# Altium schematic symbol library WR-TBL_Wire Protector.SchLib: 141 symbols (part 3 of 3)
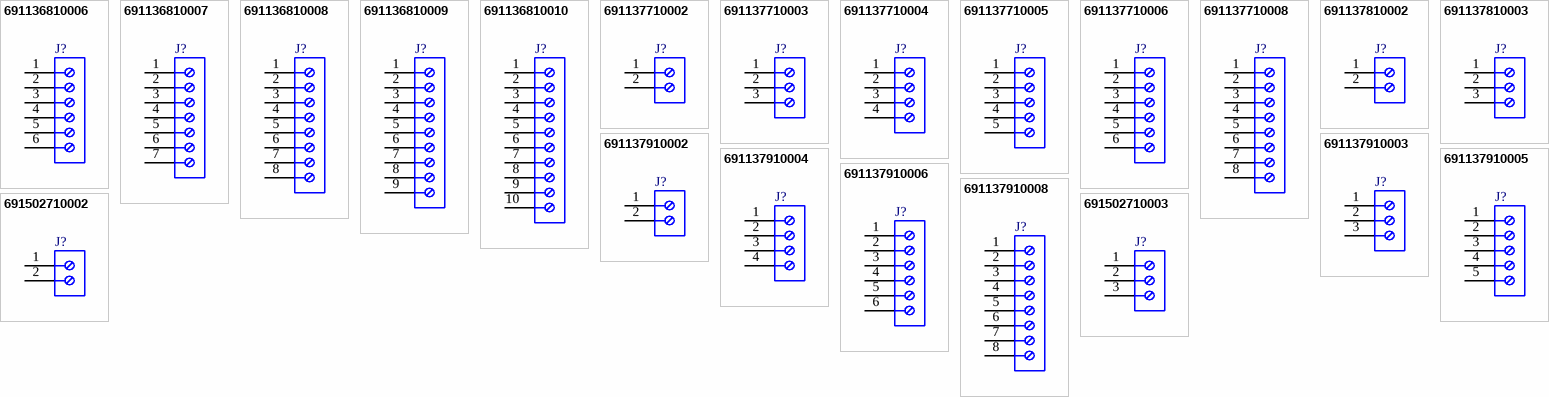
[diagram p5: symbols 691136810006 to 691502710003]

## 691137710005
designator J?  (value not drawn)
WR-TBL Series 1377 Horizontal Entry, THT, pitch 5mm, 05p; Manufacturer: Wurth Elektronik; Modularity: No; Rated Current: 16A; Wire Section: 12 to 30 (AWG) 0.5 to 2.5 (mm^2); Working Voltage: 300V (AC); Manufacturer Part Number: 691137710005; Product Series: WR-TBL; ComponentLink1Description: Website Link; ComponentLink1URL: https://www.we-online.com; ComponentLink2Description: Datasheet Link; ComponentLink2URL: https://www.we-online.com/components/products/datasheet/691137710005; Mount: Through Hole; Operating Temperature Min: -30degC; Operating Temperature Max: 120degC; Packaging: Box; Application: Pressure Clamp; Number of Pins: 5; Number of Rows: 1; Orientation: Horizontal; Lead Pitch: 5mm
footprint 691137710005
pins: 1, 2, 3, 4, 5

## 691137710006
designator J?  (value not drawn)
WR-TBL Series 1377 Horizontal Entry, THT, pitch 5mm, 06p; Manufacturer: Wurth Elektronik; Modularity: No; Rated Current: 16A; Wire Section: 12 to 30 (AWG) 0.5 to 2.5 (mm^2); Working Voltage: 300V (AC); Manufacturer Part Number: 691137710006; Product Series: WR-TBL; ComponentLink1Description: Website Link; ComponentLink1URL: https://www.we-online.com; ComponentLink2Description: Datasheet Link; ComponentLink2URL: https://www.we-online.com/components/products/datasheet/691137710006; Mount: Through Hole; Operating Temperature Min: -30degC; Operating Temperature Max: 120degC; Packaging: Box; Application: Pressure Clamp; Number of Pins: 6; Number of Rows: 1; Orientation: Horizontal; Lead Pitch: 5mm
footprint 691137710006
pins: 1, 2, 3, 4, 5, 6

## 691137710008
designator J?  (value not drawn)
WR-TBL Series 1377 Horizontal Entry, THT, pitch 5mm, 08p; Manufacturer: Wurth Elektronik; Modularity: No; Rated Current: 16A; Wire Section: 12 to 30 (AWG) 0.5 to 2.5 (mm^2); Working Voltage: 300V (AC); Manufacturer Part Number: 691137710008; Product Series: WR-TBL; ComponentLink1Description: Website Link; ComponentLink1URL: https://www.we-online.com; ComponentLink2Description: Datasheet Link; ComponentLink2URL: https://www.we-online.com/components/products/datasheet/691137710008; Mount: Through Hole; Operating Temperature Min: -30degC; Operating Temperature Max: 120degC; Packaging: Box; Application: Pressure Clamp; Number of Pins: 8; Number of Rows: 1; Orientation: Horizontal; Lead Pitch: 5mm
footprint 691137710008
pins: 1, 2, 3, 4, 5, 6, 7, 8

## 691137810002
designator J?  (value not drawn)
WR-TBL Series 1378 Horizontal Cable Entry, THT, pitch 10mm, 02p; Manufacturer: Wurth Elektronik; Modularity: No; Rated Current: 16A; Wire Section: 30 to 12 (AWG) 0.05 to 3.31 (mm^2); Working Voltage: 300V (AC); Manufacturer Part Number: 691137810002; Product Series: WR-TBL; ComponentLink1Description: Website Link; ComponentLink1URL: https://www.we-online.com; ComponentLink2Description: Datasheet Link; ComponentLink2URL: https://www.we-online.com/components/products/datasheet/691137810002; Mount: Through Hole; Operating Temperature Min: -30degC; Operating Temperature Max: 120degC; Packaging: Box; Application: Pressure Clamp; Number of Pins: 2; Number of Rows: 1; Orientation: Horizontal; Lead Pitch: 10mm
footprint 691137810002
pins: 1, 2

## 691137810003
designator J?  (value not drawn)
WR-TBL Series 1378 Horizontal Cable Entry, THT, pitch 10mm, 03p; Manufacturer: Wurth Elektronik; Modularity: No; Rated Current: 16A; Wire Section: 30 to 12 (AWG) 0.05 to 3.31 (mm^2); Working Voltage: 300V (AC); Manufacturer Part Number: 691137810003; Product Series: WR-TBL; ComponentLink1Description: Website Link; ComponentLink1URL: https://www.we-online.com; ComponentLink2Description: Datasheet Link; ComponentLink2URL: https://www.we-online.com/components/products/datasheet/691137810003; Mount: Through Hole; Operating Temperature Min: -30degC; Operating Temperature Max: 120degC; Packaging: Box; Application: Pressure Clamp; Number of Pins: 3; Number of Rows: 1; Orientation: Horizontal; Lead Pitch: 10mm
footprint 691137810003
pins: 1, 2, 3

## 691137910002
designator J?  (value not drawn)
WR-TBL Series 1379 Horizontal Cable Entry, THT, pitch 7.5mm, 02p; Manufacturer: Wurth Elektronik; Modularity: No; Rated Current: 16A; Wire Section: 30 to 12 (AWG) 0.05 to 3.31 (mm^2); Working Voltage: 300V (AC); Manufacturer Part Number: 691137910002; Product Series: WR-TBL; ComponentLink1Description: Website Link; ComponentLink1URL: https://www.we-online.com; ComponentLink2Description: Datasheet Link; ComponentLink2URL: https://www.we-online.com/components/products/datasheet/691137910002; Mount: Through Hole; Operating Temperature Min: -30degC; Operating Temperature Max: 120degC; Packaging: Box; Application: Pressure Clamp; Number of Pins: 2; Number of Rows: 1; Orientation: Horizontal; Lead Pitch: 7.5mm
footprint 691137910002
pins: 1, 2

## 691137910003
designator J?  (value not drawn)
WR-TBL Series 1379 Horizontal Cable Entry, THT, pitch 7.5mm, 03p; Manufacturer: Wurth Elektronik; Modularity: No; Rated Current: 16A; Wire Section: 30 to 12 (AWG) 0.05 to 3.31 (mm^2); Working Voltage: 300V (AC); Manufacturer Part Number: 691137910003; Product Series: WR-TBL; ComponentLink1Description: Website Link; ComponentLink1URL: https://www.we-online.com; ComponentLink2Description: Datasheet Link; ComponentLink2URL: https://www.we-online.com/components/products/datasheet/691137910003; Mount: Through Hole; Operating Temperature Min: -30degC; Operating Temperature Max: 120degC; Packaging: Box; Application: Pressure Clamp; Number of Pins: 3; Number of Rows: 1; Orientation: Horizontal; Lead Pitch: 7.5mm
footprint 691137910003
pins: 1, 2, 3

## 691137910004
designator J?  (value not drawn)
WR-TBL Series 1379 Horizontal Cable Entry, THT, pitch 7.5mm, 04p; Manufacturer: Wurth Elektronik; Modularity: No; Rated Current: 16A; Wire Section: 30 to 12 (AWG) 0.05 to 3.31 (mm^2); Working Voltage: 300V (AC); Manufacturer Part Number: 691137910004; Product Series: WR-TBL; ComponentLink1Description: Website Link; ComponentLink1URL: https://www.we-online.com; ComponentLink2Description: Datasheet Link; ComponentLink2URL: https://www.we-online.com/components/products/datasheet/691137910004; Mount: Through Hole; Operating Temperature Min: -30degC; Operating Temperature Max: 120degC; Packaging: Box; Application: Pressure Clamp; Number of Pins: 4; Number of Rows: 1; Orientation: Horizontal; Lead Pitch: 7.5mm
footprint 691137910004
pins: 1, 2, 3, 4

## 691137910005
designator J?  (value not drawn)
WR-TBL Series 1379 Horizontal Cable Entry, THT, pitch 7.5mm, 05p; Manufacturer: Wurth Elektronik; Modularity: No; Rated Current: 16A; Wire Section: 30 to 12 (AWG) 0.05 to 3.31 (mm^2); Working Voltage: 300V (AC); Manufacturer Part Number: 691137910005; Product Series: WR-TBL; ComponentLink1Description: Website Link; ComponentLink1URL: https://www.we-online.com; ComponentLink2Description: Datasheet Link; ComponentLink2URL: https://www.we-online.com/components/products/datasheet/691137910005; Mount: Through Hole; Operating Temperature Min: -30degC; Operating Temperature Max: 120degC; Packaging: Box; Application: Pressure Clamp; Number of Pins: 5; Number of Rows: 1; Orientation: Horizontal; Lead Pitch: 7.5mm
footprint 691137910005
pins: 1, 2, 3, 4, 5

## 691137910006
designator J?  (value not drawn)
WR-TBL Series 1379 Horizontal Cable Entry, THT, pitch 7.5mm, 06p; Manufacturer: Wurth Elektronik; Modularity: No; Rated Current: 16A; Wire Section: 30 to 12 (AWG) 0.05 to 3.31 (mm^2); Working Voltage: 300V (AC); Manufacturer Part Number: 691137910006; Product Series: WR-TBL; ComponentLink1Description: Website Link; ComponentLink1URL: https://www.we-online.com; ComponentLink2Description: Datasheet Link; ComponentLink2URL: https://www.we-online.com/components/products/datasheet/691137910006; Mount: Through Hole; Operating Temperature Min: -30degC; Operating Temperature Max: 120degC; Packaging: Box; Application: Pressure Clamp; Number of Pins: 6; Number of Rows: 1; Orientation: Horizontal; Lead Pitch: 7.5mm
footprint 691137910006
pins: 1, 2, 3, 4, 5, 6

## 691137910008
designator J?  (value not drawn)
WR-TBL Series 1379 Horizontal Cable Entry, THT, pitch 7.5mm, 08p; Manufacturer: Wurth Elektronik; Modularity: No; Rated Current: 16A; Wire Section: 30 to 12 (AWG) 0.05 to 3.31 (mm^2); Working Voltage: 300V (AC); Manufacturer Part Number: 691137910008; Product Series: WR-TBL; ComponentLink1Description: Website Link; ComponentLink1URL: https://www.we-online.com; ComponentLink2Description: Datasheet Link; ComponentLink2URL: https://www.we-online.com/components/products/datasheet/691137910008; Mount: Through Hole; Operating Temperature Min: -30degC; Operating Temperature Max: 120degC; Packaging: Box; Application: Pressure Clamp; Number of Pins: 8; Number of Rows: 1; Orientation: Horizontal; Lead Pitch: 7.5mm
footprint 691137910008
pins: 1, 2, 3, 4, 5, 6, 7, 8

## 691502710002
designator J?  (value not drawn)
WR-TBL Series 5027 Horizontal Entry Modular, THT, pitch 5mm, 02p; Manufacturer: Wurth Elektronik; Modularity: Yes; Rated Current: 15A; Wire Section: 22 to 14 (AWG) 0.34 to 1.5 (mm^2); Working Voltage: 300V (AC); Manufacturer Part Number: 691502710002; Product Series: WR-TBL; ComponentLink1Description: Website Link; ComponentLink1URL: https://www.we-online.com; ComponentLink2Description: Datasheet Link; ComponentLink2URL: https://www.we-online.com/components/products/datasheet/691502710002; Mount: Through Hole; Operating Temperature Min: -40degC; Operating Temperature Max: 130degC; Packaging: Box; Application: Pressure Clamp; Number of Pins: 2; Number of Rows: 1; Orientation: Horizontal; Lead Pitch: 5mm
footprint 691502710002
pins: 1, 2

## 691502710003
designator J?  (value not drawn)
WR-TBL Series 5027 Horizontal Entry Modular, THT, pitch 5mm, 03p; Manufacturer: Wurth Elektronik; Modularity: Yes; Rated Current: 15A; Wire Section: 22 to 14 (AWG) 0.34 to 1.5 (mm^2); Working Voltage: 300V (AC); Manufacturer Part Number: 691502710003; Product Series: WR-TBL; ComponentLink1Description: Website Link; ComponentLink1URL: https://www.we-online.com; ComponentLink2Description: Datasheet Link; ComponentLink2URL: https://www.we-online.com/components/products/datasheet/691502710003; Mount: Through Hole; Operating Temperature Min: -40degC; Operating Temperature Max: 130degC; Packaging: Box; Application: Pressure Clamp; Number of Pins: 3; Number of Rows: 1; Orientation: Horizontal; Lead Pitch: 5mm
footprint 691502710003
pins: 1, 2, 3